# Altium schematic symbol library 74LVC1T45.SchLib: 1 symbol
Pins are listed as number, name and electrical type; pins without a type are passive.

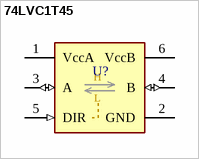
[diagram p0: symbol 74LVC1T45]

## 74LVC1T45
designator U?
pins: 1 VccA (power), 2 GND (power), 3 A (io), 4 B (io), 5 DIR (in), 6 VccB (power)
text: H; L